# EAGLE library part 8PIN_5_103166_2 (library Connectors)
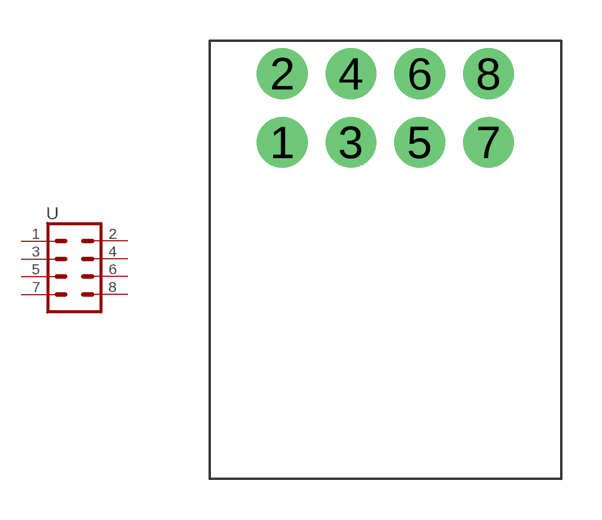
[diagram p1: symbol with the pads of TE_AMPMODU_8_PIN; footprint TE_AMPMODU_8_PIN]

Designator prefix -

## 8PIN_5_103166_2  [TE_AMPMODU_8_PIN]
1  1  pas
2  2  pas
3  3  pas
4  4  pas
5  5  pas
6  6  pas
7  7  pas
8  8  pas

## Footprint TE_AMPMODU_8_PIN (pad centres in mm)
Plated Through Hole - 2x4 Specifications: Pin count:8 Pin pitch:0.1"
drill 1.016 pad 1.88: 1 -3.81,-1.27; 2 -3.81,1.27; 3 -1.27,-1.27; 4 -1.27,1.27; 5 1.27,-1.27; 6 1.27,1.27; 7 3.81,-1.27; 8 3.81,1.27